# Altium footprint library 元器件.PCBLIB: 210 footprints (part 13 of 14)
Each footprint in its own frame and in the unit in brackets; x right, y up, seen from the top. Pads: shape width x height; smd on the part's side, far side on the other; paste and mask are expansions set on the pad; w line width, h text height; cw(c..) or ccw(c..) is an arc to the next point about the centre after c.
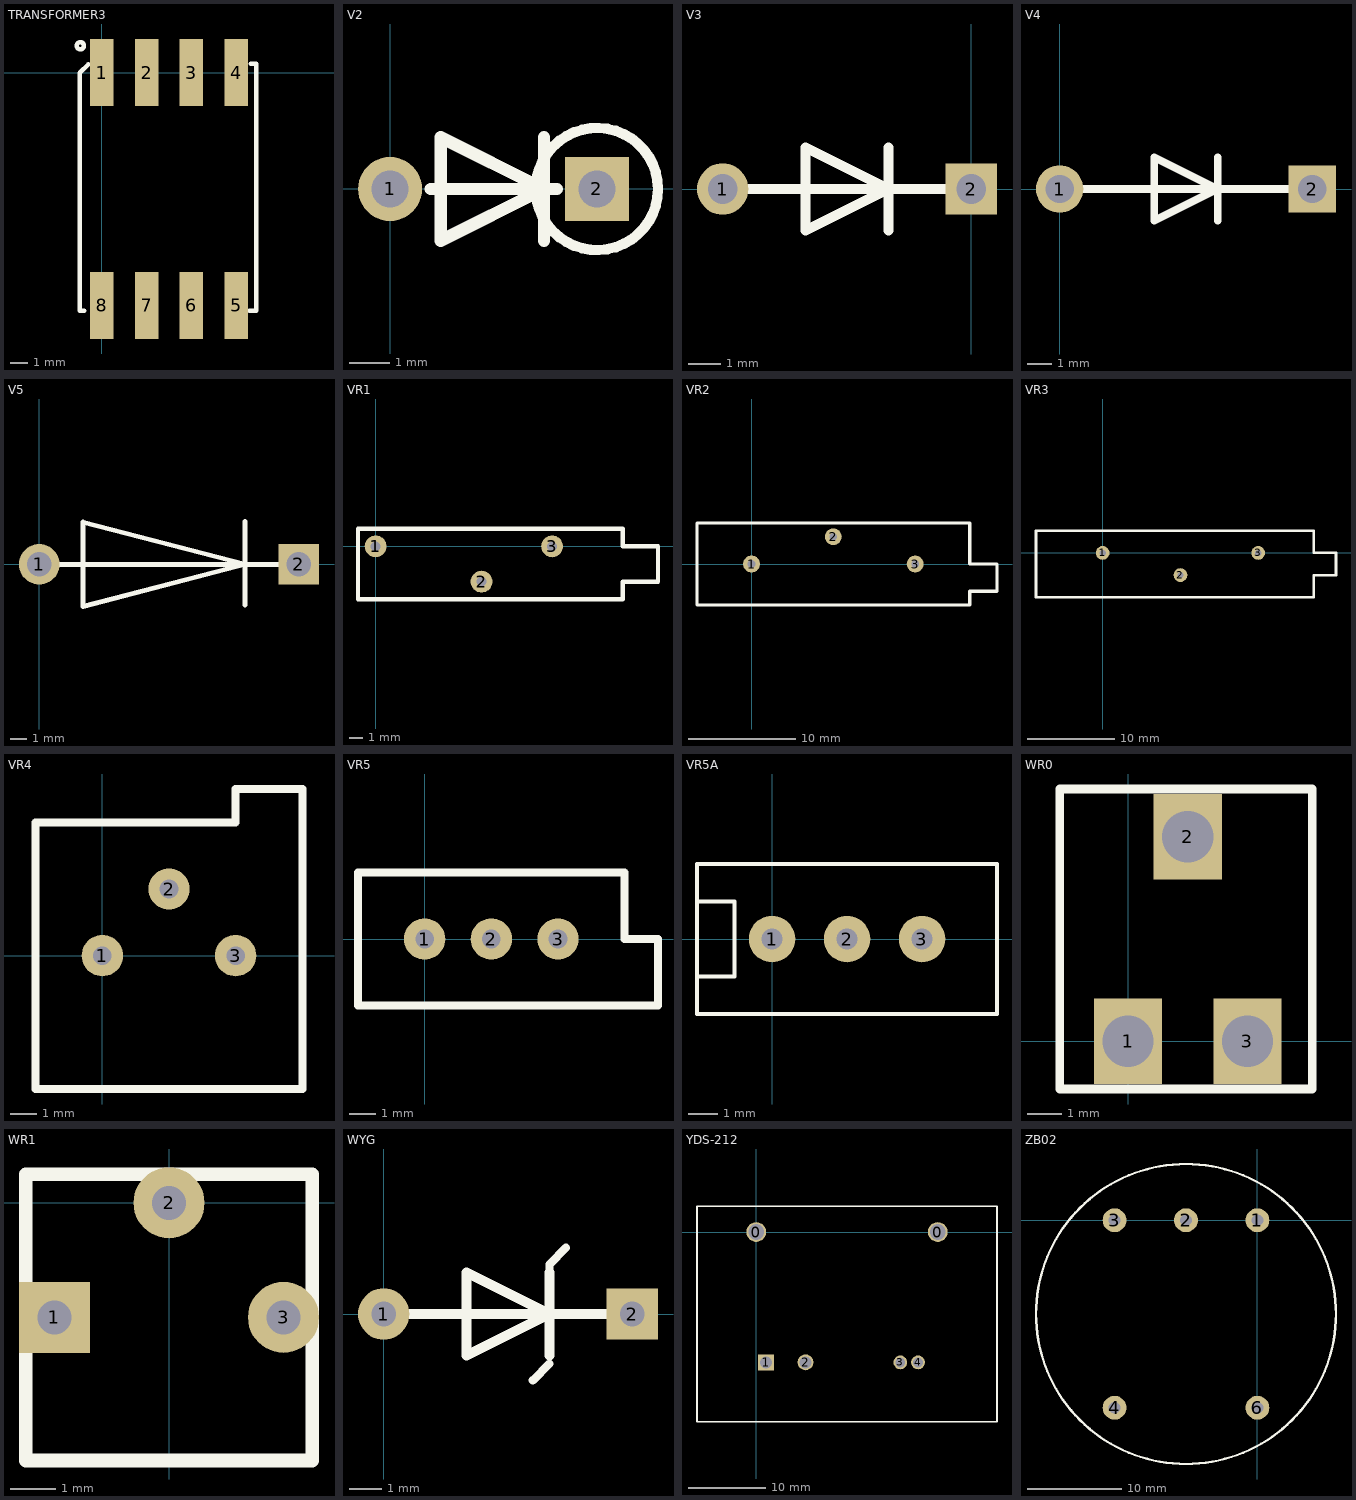
[diagram p12: the footprints below, top view; thin cyan lines are the x and y axes]

## TRANSFORMER3 [mil]
pads (8):
  rect 52x150 smd: 1(0,0) 2(100,0) 3(200,0) 4(300,0) 5(300,-520) 6(200,-520) 7(100,-520) 8(0,-520)
TopOverlay:
  circle w10: c-47.97,60 r7.97
  lines w10: -38.98,-532.21 -48.82,-532.21 -49.21,-531.81 -49.21,-0.71 -29.92,18.58 -29.92,18.98 ; 329.53,-531.81 344.49,-531.81 344.49,19.37 333.07,19.37 332.68,19.76

## V2 [mil]
pads (2):
  round 62 hole 36: 1(0,0)
  rect 62x62 hole 36: 2(200,0)
TopOverlay:
  circle w10: c200,0 r59.06
  lines w12: 39.37,0 161.42,0 ; 148.82,-50 148.82,50 ; 48.82,-50 148.82,0 48.82,50 48.82,-50

## V3 [mil]
pads (2):
  round 62 hole 36: 1(-300,0)
  rect 62x62 hole 36: 2(0,0)
TopOverlay:
  lines w12: -300,0 0,0 ; -100,-50 -100,50 ; -200,-50 -200,50 -100,0 -200,-50

## V4 [mil]
pads (2):
  round 75 hole 45: 1(0,0)
  rect 75x75 hole 45: 2(400,0)
TopOverlay:
  lines w12: 0,0 400,0 ; 250,-50 250,50 ; 150,-50 150,50 250,0 150,-50

## V5 [mm]
pads (2):
  round 2.5 hole 1.5: 1(0,0)
  rect 2.5x2.5 hole 1.5: 2(16,0)
TopOverlay:
  lines w0.305: 0,0 16,0 ; 12.7,-2.5 12.7,2.64 ; 2.7,-2.6 2.7,2.6 12.7,0 2.7,-2.6

## VR1 [mil]
pads (3):
  round 62 hole 28: 1(0,0) 2(300,-100) 3(500,0)
TopOverlay:
  lines w12: -50,-150 700,-150 700,-100 800,-100 800,0 700,0 700,50 -50,50 -50,-150

## VR2 [mil]
pads (3):
  round 62 hole 28: 1(0,0) 2(300,100) 3(600,0)
TopOverlay:
  lines w12: -200,-150 800,-150 800,-100 900,-100 900,0 800,0 800,150 -200,150 -200,-150

## VR3 [mil]
pads (3):
  round 62 hole 28: 1(0,0) 2(350,-100) 3(700,0)
TopOverlay:
  lines w12: -300,-200 -300,100 950,100 950,0 1050,0 1050,-100 950,-100 950,-200 -300,-200

## VR4 [mil]
pads (3):
  round 62 hole 28: 1(0,0) 2(100,100) 3(200,0)
TopOverlay:
  lines w12: -100,-200 300,-200 300,250 200,250 200,200 -100,200 -100,-200

## VR5 [mil]
pads (3):
  round 62 hole 28: 1(0,0) 2(100,0) 3(200,0)
TopOverlay:
  lines w12: -100,-100 -100,100 300,100 300,0 350,0 350,-100 -100,-100

## VR5A [mil]
pads (3):
  round 62 hole 28: 1(0,0) 2(100,0) 3(200,0)
TopOverlay:
  lines w5: -100,-50 -50,-50 -50,50 -100,50 ; -100,-100 300,-100 300,0 300,100 -100,100 -100,-100

## WR0 [mm]
pads (3):
  rect 2x2.5 hole 1.5: 1(0,0) 2(1.75,6) 3(3.5,0)
TopOverlay:
  lines w0.254: -2,-1.4 5.4,-1.4 5.4,7.4 -2,7.4 -2,-1.4

## WR1 [mil]
pads (3):
  rect 62x62 hole 30: 1(-100,-100)
  round 62 hole 30: 2(0,0) 3(100,-100)
TopOverlay:
  lines w12: -125,-225 -125,25 125,25 125,-225 -125,-225

## WYG [mil]
pads (2):
  round 62 hole 30: 1(0,0)
  rect 62x62 hole 30: 2(300,0)
TopOverlay:
  lines w10: 180,-80 200,-60 ; 200,50 200,60 220,80
  lines w12: 0,0 300,0 ; 200,-50 200,50 ; 100,-50 200,0 100,50 100,-50

## YDS-212 [mil]
pads (6):
  round 100 hole 80: 0(0,0) 0(920,0)
  rect 80x80 hole 60: 1(50,-660)
  round 80 hole 60: 2(250,-660)
  round 70 hole 50: 3(730,-660) 4(820,-660)
TopOverlay:
  lines w7.87: -300,-960 -300,130 1220,130 1220,-960 -300,-960

## ZB02 [mm]
pads (5):
  round 2.54 hole 1.27: 1(0,0) 2(-7.62,0) 3(-15.24,0) 4(-15.24,-20) 6(0,-20)
TopOverlay:
  circle w0.254: c-7.62,-10 r16